# EAGLE library part STEP-UP-BOOST-SOT23-6 (library FlashPCB_ICs)
STEP-UP-BOOST - LED Driver IC 1 Output DC DC Regulator Step-Up (Boost) Dimming 100mA SOT-23-6 Technical Specifications: Type: DC DC Regulator Number of Outputs: 1 Component Search: [DATA SHEET NAME] <[FLASHPCB URL]> Datasheet: AP3602A <https://www.digikey.com/en/products/detail/diodes-incorporated/AP3602AKTR-G1/5305823>
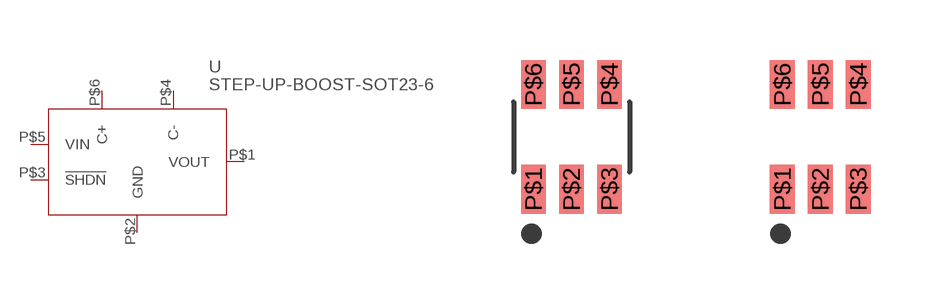
[diagram p82: symbol with the pads of SOT-23-6; footprints SOT-23-6, SOT-23-6_NOSILK]

Designator prefix U

## STEP-UP-BOOST-SOT23-6  [SOT-23-6]
P$1  VOUT
P$2  GND
P$3  !SHDN!
P$4  C-
P$5  VIN
P$6  C+

## STEP-UP-BOOST-SOT23-6NOSILK  [SOT-23-6_NOSILK]
Pads as for SOT-23-6

## Footprint SOT-23-6 (pad centres in mm)
smd 0.62 x 1.22: P$1 -0.95,-1.31; P$2 0,-1.31; P$3 0.95,-1.31; P$4 0.95,1.31; P$5 0,1.31; P$6 -0.95,1.31

## Footprint SOT-23-6_NOSILK (pad centres in mm)
smd 0.62 x 1.22: P$1 -0.95,-1.31; P$2 0,-1.31; P$3 0.95,-1.31; P$4 0.95,1.31; P$5 0,1.31; P$6 -0.95,1.31